# Altium schematic symbol library Reneseas Electronics.SchLib: 1 symbol
Pins are listed as number, name and electrical type; pins without a type are passive.

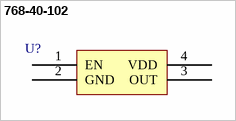
[diagram p0: symbol 768-40-102]

## 768-40-102
designator U?  (value not drawn)
pins: 1 EN, 2 GND, 3 OUT, 4 VDD